# Altium schematic symbol library SnapEDAsch.SchLib: 1 symbol
Pins are listed as number, name and electrical type; pins without a type are passive.

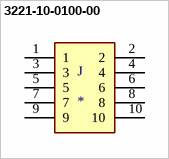
[diagram p0: symbol 3221-10-0100-00]

## 3221-10-0100-00
designator J
Connector Header Through Hole 10 position 0.050 _1.27mm_; MF: CNC Tech; MP: 3221-10-0100-00; Digi-Key_Part_Number: 1175-1733-ND; SnapEDA_Link: https://www.snapeda.com/parts/3221-10-0100-00/CNC%20Tech/view-part/596947/?ref=snap; Digi-Key_Purchase_URL: https://www.digikey.com/product-detail/en/cnc-tech/3221-10-0100-00/1175-1733-ND/4878932?utm_source=snapeda&utm_medium=aggregator&utm_campaign=symbol; Package: None; Value: *
footprint CNC_3221-10-0100-00
pins: 1, 2, 3, 4, 5, 6, 7, 8, 9, 10